# Altium schematic symbol library CR0402-FX-33R0GLF.SchLib: 1 symbol
Pins are listed as number, name and electrical type; pins without a type are passive.

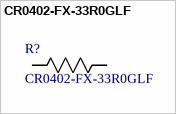
[diagram p0: symbol CR0402-FX-33R0GLF]

## CR0402-FX-33R0GLF
designator R?
No Description Available; Mfr_Name: Bourns Electronics; Copyright: Copyright (C) 2022 Ultra Librarian. All rights reserved.; Manufacturer_Part_Number: CR0402-FX-33R0GLF; Digi-Key_Part_Number_1: CR0402-FX-33R0GLFCT-ND; Digi-Key_Part_Number_2: CR0402-FX-33R0GLFDKR-ND; Digi-Key_Part_Number_3: CR0402-FX-33R0GLFTR-ND; RefDes: RefDes; Type: DEV
footprint BO_CR0402
pins: 1, 2